# Altium footprint library JS202011JCQN.PcbLib: 1 footprints
Each footprint in its own frame and in the unit in brackets; x right, y up, seen from the top. Pads: shape width x height; smd on the part's side, far side on the other; paste and mask are expansions set on the pad; w line width, h text height; cw(c..) or ccw(c..) is an arc to the next point about the centre after c.
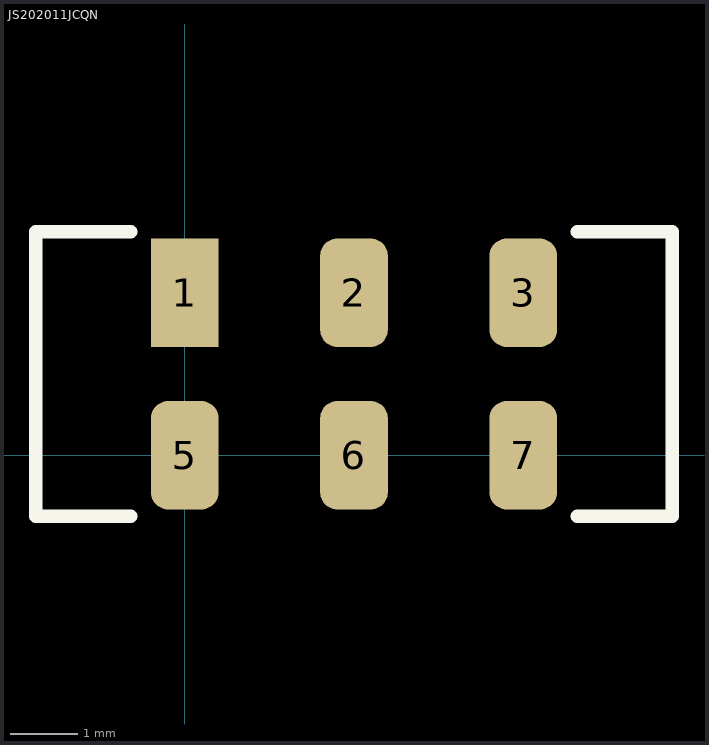
[diagram p0: the footprint, top view; thin cyan lines are the x and y axes]

## JS202011JCQN [mm]
pads (6):
  rect 1x1.6 smd: 1(0,2.4)
  rrect50% 1x1.6 smd: 2(2.5,2.4) 3(5,2.4) 5(0,0) 6(2.5,0) 7(5,0)
Top Overlay:
  lines w0.2: -0.8,-0.9 -2.2,-0.9 -2.2,3.3 -0.8,3.3 ; 5.8,-0.9 7.2,-0.9 7.2,3.3 5.8,3.3
3D body "JS202011JCQN.stp": height 5.62, standoff 0.02, extent -2,-0.6 7,3